# Altium schematic symbol library DS3231SN#.SchLib: 1 symbol
Pins are listed as number, name and electrical type; pins without a type are passive.

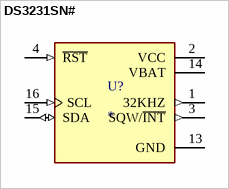
[diagram p0: symbol DS3231SN#]

## DS3231SN#
designator U?
Real Time Clock (RTC) IC Clock/Calendar IÂ²C, 2-Wire Serial 16-SOIC (0.295, 7.50mm Width); MP: DS3231SN#; MF: Maxim Integrated Products; Price: None; Value: *; Package: None; Purchase-URL: https://pricing.snapeda.com/search/part/DS3231SN#/?ref=eda; SnapEDA_Link: https://www.snapeda.com/parts/DS3231SN%23/Maxim+Integrated/view-part/?ref=snap; Check_prices: https://www.snapeda.com/parts/DS3231SN%23/Maxim+Integrated/view-part/?ref=eda; Availability: In Stock
footprint SOIC127P1032X265-16N
pins: 1 32KHZ (out), 2 VCC (power), 3 SQW/~{INT} (out), 4 ~{RST} (in), 13 GND (power), 14 VBAT (power), 15 SDA (io), 16 SCL (in)